# Altium schematic symbol library Orient.SchLib: 98 symbols (part 5 of 5)
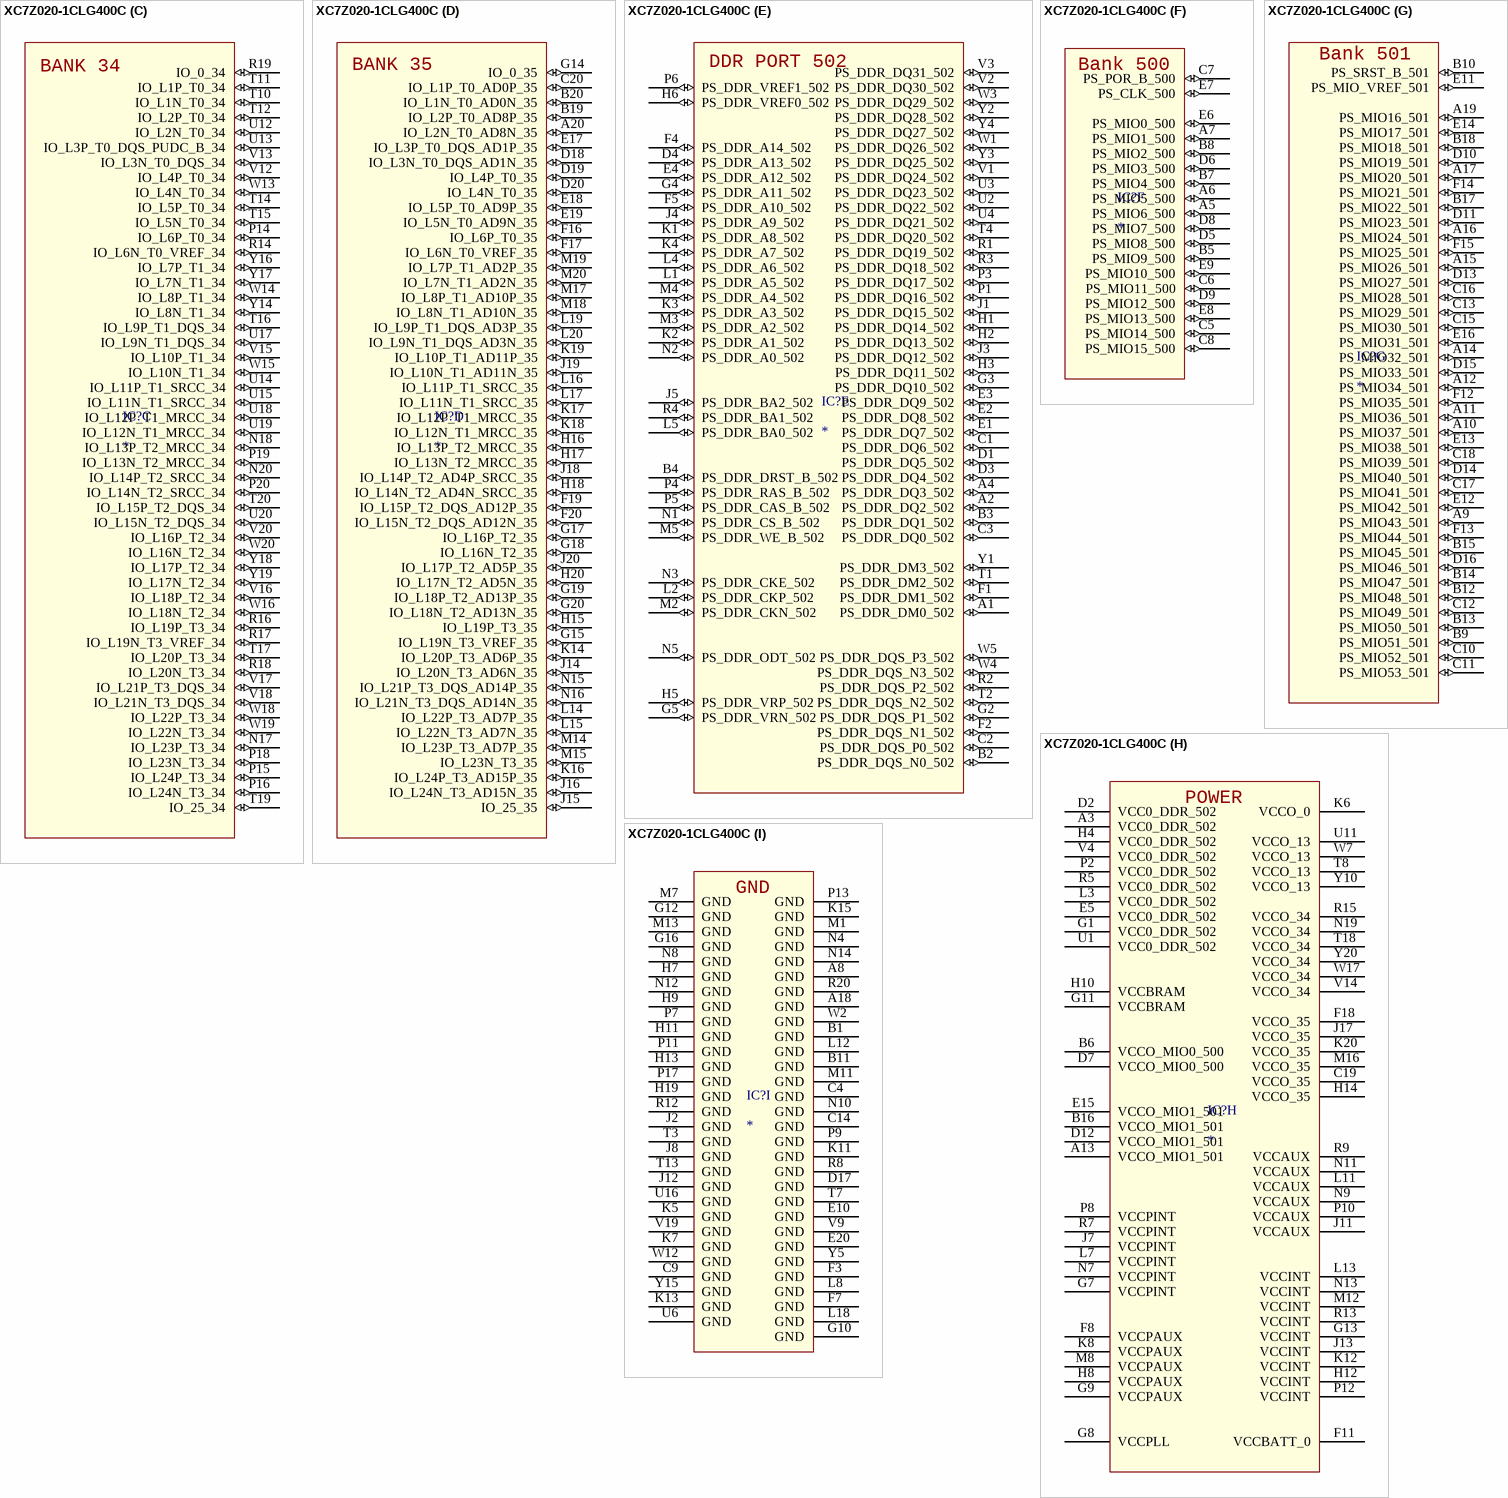
[diagram p7: symbol XC7Z020-1CLG400C]

## XC7Z020-1CLG400C
designator IC?
Zynq-7000 SoC.; ComponentLink1Description: Digi-Key; ComponentLink1URL: https://www.digikey.com/product-detail/en/xilinx-inc/XC7Z020-1CLG400C/122-1851-ND/3925758?utm_adgroup=Integrated Circuits&slid=&gclid=Cj0KCQjwn_LrBRD4ARIsAFEQFKtYXIOPieaS_xsLL2AvFALkVw3M5siD0KQOWM0owpA_yiQuHKATBqcaAuQ6EALw_wcB
footprint BGA400 (BGA, 400-Leads, Body 17.00x17.00mmx1.47mm, Pitch 0.80mm)
part A pins: F6 TDO_0 (out) "JTAG data output.", F9 TCK_0 (in) "JTAG clock.", F10 RSVDGND (io) "Reserved pins--do not connect.", G6 TDI_0 (in) "JTAG data input.", J6 TMS_0 (in) "JTAG mode select.", J9 VCCADC_0 "XADC analog positive supply voltage.", J10 GNDADC_0 "XADC analog ground reference.", K9 VP_0 "XADC dedicated differential analog input (positive side).", K10 VREFN_0 "1.25V reference GND reference.", L6 PROGRAM_B_0 (in) "Active Low, asynchronous reset to configuration logic.", L9 VREFP_0 "1.25V reference input.", L10 VN_0 "XADC dedicated differential analog input (negative side).", M6 CFGBVS_0 (in) "Selects the preconfiguration I/O standard type for the dedicated configuration bank 0. If the Vcco for bank 0 is 2.5V or 3.3V, then this pin must be connected to Vcco_0. If the Vcco for bank 0 is less than or equal to 1.8V, then this pin should be connected to GND.", M9 DXP_0 "Temperature-sensing diode anode pin. When not used, tie to GND.", M10 DXN_0 "Temperature-sensing diode cathode pin. When not used, tie to GND.", N6 RSVDVCC3 (io) "Reserved pins--must be tied to Vcco_0.", R6 RSVDVCC2 (io) "Reserved pins--must be tied to Vcco_0.", R10 INIT_B_0 (io) "Active Low, indicates initialisation of configuration memory.", R11 DONE_0 (io) "Active High, DONE indicates successful completion of configuration.", T6 RSVDVCC1 (io) "Reserved pins--must be tied to Vcco_0."
part B pins: T5 IO_L19P_T3_13 (io) "Dedicated general purpose user I/O pins. There are also multi-function pins. If not used for their special function, these pins can be user I/O.", T9 IO_L12P_T1_MRCC_13 (io) "Dedicated general purpose user I/O pins. There are also multi-function pins. If not used for their special function, these pins can be user I/O.", U5 IO_L19N_T3_VREF_13 (io) "Dedicated general purpose user I/O pins. There are also multi-function pins. If not used for their special function, these pins can be user I/O.", U7 IO_L11P_T1_SRCC_13 (io) "Dedicated general purpose user I/O pins. There are also multi-function pins. If not used for their special function, these pins can be user I/O.", U8 IO_L17N_T2_13 (io) "Dedicated general purpose user I/O pins. There are also multi-function pins. If not used for their special function, these pins can be user I/O.", U9 IO_L17P_T2_13 (io) "Dedicated general purpose user I/O pins. There are also multi-function pins. If not used for their special function, these pins can be user I/O.", U10 IO_L12N_T1_MRCC_13 (io) "Dedicated general purpose user I/O pins. There are also multi-function pins. If not used for their special function, these pins can be user I/O.", V5 IO_L6N_T0_VREF_13 (io) "Dedicated general purpose user I/O pins. There are also multi-function pins. If not used for their special function, these pins can be user I/O.", V6 IO_L22P_T3_13 (io) "Dedicated general purpose user I/O pins. There are also multi-function pins. If not used for their special function, these pins can be user I/O.", V7 IO_L11N_T1_SRCC_13 (io) "Dedicated general purpose user I/O pins. There are also multi-function pins. If not used for their special function, these pins can be user I/O.", V8 IO_L15P_T2_DQS_13 (io) "Dedicated general purpose user I/O pins. There are also multi-function pins. If not used for their special function, these pins can be user I/O.", V10 IO_L21N_T3_DQS_13 (io) "Dedicated general purpose user I/O pins. There are also multi-function pins. If not used for their special function, these pins can be user I/O.", V11 IO_L21P_T3_DQS_13 (io) "Dedicated general purpose user I/O pins. There are also multi-function pins. If not used for their special function, these pins can be user I/O.", W6 IO_L22N_T3_13 (io) "Dedicated general purpose user I/O pins. There are also multi-function pins. If not used for their special function, these pins can be user I/O.", W8 IO_L15N_T2_DQS_13 (io) "Dedicated general purpose user I/O pins. There are also multi-function pins. If not used for their special function, these pins can be user I/O.", W9 IO_L16N_T2_13 (io) "Dedicated general purpose user I/O pins. There are also multi-function pins. If not used for their special function, these pins can be user I/O.", W10 IO_L16P_T2_13 (io) "Dedicated general purpose user I/O pins. There are also multi-function pins. If not used for their special function, these pins can be user I/O.", W11 IO_L18P_T2_13 (io) "Dedicated general purpose user I/O pins. There are also multi-function pins. If not used for their special function, these pins can be user I/O.", Y6 IO_L13N_T2_MRCC_13 (io) "Dedicated general purpose user I/O pins. There are also multi-function pins. If not used for their special function, these pins can be user I/O.", Y7 IO_L13P_T2_MRCC_13 (io) "Dedicated general purpose user I/O pins. There are also multi-function pins. If not used for their special function, these pins can be user I/O.", Y8 IO_L14N_T2_SRCC_13 (io) "Dedicated general purpose user I/O pins. There are also multi-function pins. If not used for their special function, these pins can be user I/O.", Y9 IO_L14P_T2_SRCC_13 (io) "Dedicated general purpose user I/O pins. There are also multi-function pins. If not used for their special function, these pins can be user I/O.", Y11 IO_L18N_T2_13 (io) "Dedicated general purpose user I/O pins. There are also multi-function pins. If not used for their special function, these pins can be user I/O.", Y12 IO_L20P_T3_13 (io) "Dedicated general purpose user I/O pins. There are also multi-function pins. If not used for their special function, these pins can be user I/O.", Y13 IO_L20N_T3_13 (io) "Dedicated general purpose user I/O pins. There are also multi-function pins. If not used for their special function, these pins can be user I/O."
part C pins: N17 IO_L23P_T3_34 (io) "Dedicated general purpose user I/O pins. There are also multi-function pins. If not used for their special function, these pins can be user I/O.", N18 IO_L13P_T2_MRCC_34 (io) "Dedicated general purpose user I/O pins. There are also multi-function pins. If not used for their special function, these pins can be user I/O.", N20 IO_L14P_T2_SRCC_34 (io) "Dedicated general purpose user I/O pins. There are also multi-function pins. If not used for their special function, these pins can be user I/O.", P14 IO_L6P_T0_34 (io) "Dedicated general purpose user I/O pins. There are also multi-function pins. If not used for their special function, these pins can be user I/O.", P15 IO_L24P_T3_34 (io) "Dedicated general purpose user I/O pins. There are also multi-function pins. If not used for their special function, these pins can be user I/O.", P16 IO_L24N_T3_34 (io) "Dedicated general purpose user I/O pins. There are also multi-function pins. If not used for their special function, these pins can be user I/O.", P18 IO_L23N_T3_34 (io) "Dedicated general purpose user I/O pins. There are also multi-function pins. If not used for their special function, these pins can be user I/O.", P19 IO_L13N_T2_MRCC_34 (io) "Dedicated general purpose user I/O pins. There are also multi-function pins. If not used for their special function, these pins can be user I/O.", P20 IO_L14N_T2_SRCC_34 (io) "Dedicated general purpose user I/O pins. There are also multi-function pins. If not used for their special function, these pins can be user I/O.", R14 IO_L6N_T0_VREF_34 (io) "Dedicated general purpose user I/O pins. There are also multi-function pins. If not used for their special function, these pins can be user I/O.", R16 IO_L19P_T3_34 (io) "Dedicated general purpose user I/O pins. There are also multi-function pins. If not used for their special function, these pins can be user I/O.", R17 IO_L19N_T3_VREF_34 (io) "Dedicated general purpose user I/O pins. There are also multi-function pins. If not used for their special function, these pins can be user I/O.", R18 IO_L20N_T3_34 (io) "Dedicated general purpose user I/O pins. There are also multi-function pins. If not used for their special function, these pins can be user I/O.", R19 IO_0_34 (io) "Dedicated general purpose user I/O pins. There are also multi-function pins. If not used for their special function, these pins can be user I/O.", T10 IO_L1N_T0_34 (io) "Dedicated general purpose user I/O pins. There are also multi-function pins. If not used for their special function, these pins can be user I/O.", T11 IO_L1P_T0_34 (io) "Dedicated general purpose user I/O pins. There are also multi-function pins. If not used for their special function, these pins can be user I/O.", T12 IO_L2P_T0_34 (io) "Dedicated general purpose user I/O pins. There are also multi-function pins. If not used for their special function, these pins can be user I/O.", T14 IO_L5P_T0_34 (io) "Dedicated general purpose user I/O pins. There are also multi-function pins. If not used for their special function, these pins can be user I/O.", T15 IO_L5N_T0_34 (io) "Dedicated general purpose user I/O pins. There are also multi-function pins. If not used for their special function, these pins can be user I/O.", T16 IO_L9P_T1_DQS_34 (io) "Dedicated general purpose user I/O pins. There are also multi-function pins. If not used for their special function, these pins can be user I/O.", T17 IO_L20P_T3_34 (io) "Dedicated general purpose user I/O pins. There are also multi-function pins. If not used for their special function, these pins can be user I/O.", T19 IO_25_34 (io) "Dedicated general purpose user I/O pins. There are also multi-function pins. If not used for their special function, these pins can be user I/O.", T20 IO_L15P_T2_DQS_34 (io) "Dedicated general purpose user I/O pins. There are also multi-function pins. If not used for their special function, these pins can be user I/O.", U12 IO_L2N_T0_34 (io) "Dedicated general purpose user I/O pins. There are also multi-function pins. If not used for their special function, these pins can be user I/O.", U13 IO_L3P_T0_DQS_PUDC_B_34 (io) "Dedicated general purpose user I/O pins. There are also multi-function pins. If not used for their special function, these pins can be user I/O.", U14 IO_L11P_T1_SRCC_34 (io) "Dedicated general purpose user I/O pins. There are also multi-function pins. If not used for their special function, these pins can be user I/O.", U15 IO_L11N_T1_SRCC_34 (io) "Dedicated general purpose user I/O pins. There are also multi-function pins. If not used for their special function, these pins can be user I/O.", U17 IO_L9N_T1_DQS_34 (io) "Dedicated general purpose user I/O pins. There are also multi-function pins. If not used for their special function, these pins can be user I/O.", U18 IO_L12P_T1_MRCC_34 (io) "Dedicated general purpose user I/O pins. There are also multi-function pins. If not used for their special function, these pins can be user I/O.", U19 IO_L12N_T1_MRCC_34 (io) "Dedicated general purpose user I/O pins. There are also multi-function pins. If not used for their special function, these pins can be user I/O.", U20 IO_L15N_T2_DQS_34 (io) "Dedicated general purpose user I/O pins. There are also multi-function pins. If not used for their special function, these pins can be user I/O.", V12 IO_L4P_T0_34 (io) "Dedicated general purpose user I/O pins. There are also multi-function pins. If not used for their special function, these pins can be user I/O.", V13 IO_L3N_T0_DQS_34 (io) "Dedicated general purpose user I/O pins. There are also multi-function pins. If not used for their special function, these pins can be user I/O.", V15 IO_L10P_T1_34 (io) "Dedicated general purpose user I/O pins. There are also multi-function pins. If not used for their special function, these pins can be user I/O.", V16 IO_L18P_T2_34 (io) "Dedicated general purpose user I/O pins. There are also multi-function pins. If not used for their special function, these pins can be user I/O.", V17 IO_L21P_T3_DQS_34 (io) "Dedicated general purpose user I/O pins. There are also multi-function pins. If not used for their special function, these pins can be user I/O.", V18 IO_L21N_T3_DQS_34 (io) "Dedicated general purpose user I/O pins. There are also multi-function pins. If not used for their special function, these pins can be user I/O.", V20 IO_L16P_T2_34 (io) "Dedicated general purpose user I/O pins. There are also multi-function pins. If not used for their special function, these pins can be user I/O.", W13 IO_L4N_T0_34 (io) "Dedicated general purpose user I/O pins. There are also multi-function pins. If not used for their special function, these pins can be user I/O.", W14 IO_L8P_T1_34 (io) "Dedicated general purpose user I/O pins. There are also multi-function pins. If not used for their special function, these pins can be user I/O.", W15 IO_L10N_T1_34 (io) "Dedicated general purpose user I/O pins. There are also multi-function pins. If not used for their special function, these pins can be user I/O.", W16 IO_L18N_T2_34 (io) "Dedicated general purpose user I/O pins. There are also multi-function pins. If not used for their special function, these pins can be user I/O.", W18 IO_L22P_T3_34 (io) "Dedicated general purpose user I/O pins. There are also multi-function pins. If not used for their special function, these pins can be user I/O.", W19 IO_L22N_T3_34 (io) "Dedicated general purpose user I/O pins. There are also multi-function pins. If not used for their special function, these pins can be user I/O.", W20 IO_L16N_T2_34 (io) "Dedicated general purpose user I/O pins. There are also multi-function pins. If not used for their special function, these pins can be user I/O.", Y14 IO_L8N_T1_34 (io) "Dedicated general purpose user I/O pins. There are also multi-function pins. If not used for their special function, these pins can be user I/O.", Y16 IO_L7P_T1_34 (io) "Dedicated general purpose user I/O pins. There are also multi-function pins. If not used for their special function, these pins can be user I/O.", Y17 IO_L7N_T1_34 (io) "Dedicated general purpose user I/O pins. There are also multi-function pins. If not used for their special function, these pins can be user I/O.", Y18 IO_L17P_T2_34 (io) "Dedicated general purpose user I/O pins. There are also multi-function pins. If not used for their special function, these pins can be user I/O.", Y19 IO_L17N_T2_34 (io) "Dedicated general purpose user I/O pins. There are also multi-function pins. If not used for their special function, these pins can be user I/O."
part D pins: A20 IO_L2N_T0_AD8N_35 (io) "Dedicated general purpose user I/O pins. There are also multi-function pins. If not used for their special function, these pins can be user I/O.", B19 IO_L2P_T0_AD8P_35 (io) "Dedicated general purpose user I/O pins. There are also multi-function pins. If not used for their special function, these pins can be user I/O.", B20 IO_L1N_T0_AD0N_35 (io) "Dedicated general purpose user I/O pins. There are also multi-function pins. If not used for their special function, these pins can be user I/O.", C20 IO_L1P_T0_AD0P_35 (io) "Dedicated general purpose user I/O pins. There are also multi-function pins. If not used for their special function, these pins can be user I/O.", D18 IO_L3N_T0_DQS_AD1N_35 (io) "Dedicated general purpose user I/O pins. There are also multi-function pins. If not used for their special function, these pins can be user I/O.", D19 IO_L4P_T0_35 (io) "Dedicated general purpose user I/O pins. There are also multi-function pins. If not used for their special function, these pins can be user I/O.", D20 IO_L4N_T0_35 (io) "Dedicated general purpose user I/O pins. There are also multi-function pins. If not used for their special function, these pins can be user I/O.", E17 IO_L3P_T0_DQS_AD1P_35 (io) "Dedicated general purpose user I/O pins. There are also multi-function pins. If not used for their special function, these pins can be user I/O.", E18 IO_L5P_T0_AD9P_35 (io) "Dedicated general purpose user I/O pins. There are also multi-function pins. If not used for their special function, these pins can be user I/O.", E19 IO_L5N_T0_AD9N_35 (io) "Dedicated general purpose user I/O pins. There are also multi-function pins. If not used for their special function, these pins can be user I/O.", F16 IO_L6P_T0_35 (io) "Dedicated general purpose user I/O pins. There are also multi-function pins. If not used for their special function, these pins can be user I/O.", F17 IO_L6N_T0_VREF_35 (io) "Dedicated general purpose user I/O pins. There are also multi-function pins. If not used for their special function, these pins can be user I/O.", F19 IO_L15P_T2_DQS_AD12P_35 (io) "Dedicated general purpose user I/O pins. There are also multi-function pins. If not used for their special function, these pins can be user I/O.", F20 IO_L15N_T2_DQS_AD12N_35 (io) "Dedicated general purpose user I/O pins. There are also multi-function pins. If not used for their special function, these pins can be user I/O.", G14 IO_0_35 (io) "Dedicated general purpose user I/O pins. There are also multi-function pins. If not used for their special function, these pins can be user I/O.", G15 IO_L19N_T3_VREF_35 (io) "Dedicated general purpose user I/O pins. There are also multi-function pins. If not used for their special function, these pins can be user I/O.", G17 IO_L16P_T2_35 (io) "Dedicated general purpose user I/O pins. There are also multi-function pins. If not used for their special function, these pins can be user I/O.", G18 IO_L16N_T2_35 (io) "Dedicated general purpose user I/O pins. There are also multi-function pins. If not used for their special function, these pins can be user I/O.", G19 IO_L18P_T2_AD13P_35 (io) "Dedicated general purpose user I/O pins. There are also multi-function pins. If not used for their special function, these pins can be user I/O.", G20 IO_L18N_T2_AD13N_35 (io) "Dedicated general purpose user I/O pins. There are also multi-function pins. If not used for their special function, these pins can be user I/O.", H15 IO_L19P_T3_35 (io) "Dedicated general purpose user I/O pins. There are also multi-function pins. If not used for their special function, these pins can be user I/O.", H16 IO_L13P_T2_MRCC_35 (io) "Dedicated general purpose user I/O pins. There are also multi-function pins. If not used for their special function, these pins can be user I/O.", H17 IO_L13N_T2_MRCC_35 (io) "Dedicated general purpose user I/O pins. There are also multi-function pins. If not used for their special function, these pins can be user I/O.", H18 IO_L14N_T2_AD4N_SRCC_35 (io) "Dedicated general purpose user I/O pins. There are also multi-function pins. If not used for their special function, these pins can be user I/O.", H20 IO_L17N_T2_AD5N_35 (io) "Dedicated general purpose user I/O pins. There are also multi-function pins. If not used for their special function, these pins can be user I/O.", J14 IO_L20N_T3_AD6N_35 (io) "Dedicated general purpose user I/O pins. There are also multi-function pins. If not used for their special function, these pins can be user I/O.", J15 IO_25_35 (io) "Dedicated general purpose user I/O pins. There are also multi-function pins. If not used for their special function, these pins can be user I/O.", J16 IO_L24N_T3_AD15N_35 (io) "Dedicated general purpose user I/O pins. There are also multi-function pins. If not used for their special function, these pins can be user I/O.", J18 IO_L14P_T2_AD4P_SRCC_35 (io) "Dedicated general purpose user I/O pins. There are also multi-function pins. If not used for their special function, these pins can be user I/O.", J19 IO_L10N_T1_AD11N_35 (io) "Dedicated general purpose user I/O pins. There are also multi-function pins. If not used for their special function, these pins can be user I/O.", J20 IO_L17P_T2_AD5P_35 (io) "Dedicated general purpose user I/O pins. There are also multi-function pins. If not used for their special function, these pins can be user I/O.", K14 IO_L20P_T3_AD6P_35 (io) "Dedicated general purpose user I/O pins. There are also multi-function pins. If not used for their special function, these pins can be user I/O.", K16 IO_L24P_T3_AD15P_35 (io) "Dedicated general purpose user I/O pins. There are also multi-function pins. If not used for their special function, these pins can be user I/O.", K17 IO_L12P_T1_MRCC_35 (io) "Dedicated general purpose user I/O pins. There are also multi-function pins. If not used for their special function, these pins can be user I/O.", K18 IO_L12N_T1_MRCC_35 (io) "Dedicated general purpose user I/O pins. There are also multi-function pins. If not used for their special function, these pins can be user I/O.", K19 IO_L10P_T1_AD11P_35 (io) "Dedicated general purpose user I/O pins. There are also multi-function pins. If not used for their special function, these pins can be user I/O.", L14 IO_L22P_T3_AD7P_35 (io) "Dedicated general purpose user I/O pins. There are also multi-function pins. If not used for their special function, these pins can be user I/O.", L15 IO_L22N_T3_AD7N_35 (io) "Dedicated general purpose user I/O pins. There are also multi-function pins. If not used for their special function, these pins can be user I/O.", L16 IO_L11P_T1_SRCC_35 (io) "Dedicated general purpose user I/O pins. There are also multi-function pins. If not used for their special function, these pins can be user I/O.", L17 IO_L11N_T1_SRCC_35 (io) "Dedicated general purpose user I/O pins. There are also multi-function pins. If not used for their special function, these pins can be user I/O.", L19 IO_L9P_T1_DQS_AD3P_35 (io) "Dedicated general purpose user I/O pins. There are also multi-function pins. If not used for their special function, these pins can be user I/O.", L20 IO_L9N_T1_DQS_AD3N_35 (io) "Dedicated general purpose user I/O pins. There are also multi-function pins. If not used for their special function, these pins can be user I/O.", M14 IO_L23P_T3_AD7P_35 (io) "Dedicated general purpose user I/O pins. There are also multi-function pins. If not used for their special function, these pins can be user I/O.", M15 IO_L23N_T3_35 (io) "Dedicated general purpose user I/O pins. There are also multi-function pins. If not used for their special function, these pins can be user I/O.", M17 IO_L8P_T1_AD10P_35 (io) "Dedicated general purpose user I/O pins. There are also multi-function pins. If not used for their special function, these pins can be user I/O.", M18 IO_L8N_T1_AD10N_35 (io) "Dedicated general purpose user I/O pins. There are also multi-function pins. If not used for their special function, these pins can be user I/O.", M19 IO_L7P_T1_AD2P_35 (io) "Dedicated general purpose user I/O pins. There are also multi-function pins. If not used for their special function, these pins can be user I/O.", M20 IO_L7N_T1_AD2N_35 (io) "Dedicated general purpose user I/O pins. There are also multi-function pins. If not used for their special function, these pins can be user I/O.", N15 IO_L21P_T3_DQS_AD14P_35 (io) "Dedicated general purpose user I/O pins. There are also multi-function pins. If not used for their special function, these pins can be user I/O.", N16 IO_L21N_T3_DQS_AD14N_35 (io) "Dedicated general purpose user I/O pins. There are also multi-function pins. If not used for their special function, these pins can be user I/O."
part E pins: A1 PS_DDR_DM0_502 (io) "DDR data mask.", A2 PS_DDR_DQ2_502 (io) "DDR data.", A4 PS_DDR_DQ3_502 (io) "DDR data.", B2 PS_DDR_DQS_N0_502 (io) "DDR differential data strobe negative.", B3 PS_DDR_DQ1_502 (io) "DDR data.", B4 PS_DDR_DRST_B_502 (io) "DDR reset signal for DDR3 devices.", C1 PS_DDR_DQ6_502 (io) "DDR data.", C2 PS_DDR_DQS_P0_502 (io) "DDR differential data strobe positive.", C3 PS_DDR_DQ0_502 (io) "DDR data.", D1 PS_DDR_DQ5_502 (io) "DDR data.", D3 PS_DDR_DQ4_502 (io) "DDR data.", D4 PS_DDR_A13_502 (io) "DDR row and column address.", E1 PS_DDR_DQ7_502 (io) "DDR data.", E2 PS_DDR_DQ8_502 (io) "DDR data.", E3 PS_DDR_DQ9_502 (io) "DDR data.", E4 PS_DDR_A12_502 (io) "DDR row and column address.", F1 PS_DDR_DM1_502 (io) "DDR data mask.", F2 PS_DDR_DQS_N1_502 (io) "DDR differential data strobe negative.", F4 PS_DDR_A14_502 (io) "DDR row and column address.", F5 PS_DDR_A10_502 (io) "DDR row and column address.", G2 PS_DDR_DQS_P1_502 (io) "DDR differential data strobe positive.", G3 PS_DDR_DQ10_502 (io) "DDR data.", G4 PS_DDR_A11_502 (io) "DDR row and column address.", G5 PS_DDR_VRN_502 (io) "DDR DCI voltage reference negative.", H1 PS_DDR_DQ14_502 (io) "DDR data.", H2 PS_DDR_DQ13_502 (io) "DDR data.", H3 PS_DDR_DQ11_502 (io) "DDR data.", H5 PS_DDR_VRP_502 (io) "DDR DCI voltage reference positive.", H6 PS_DDR_VREF0_502 (io) "Voltage reference for the DDR interface.", J1 PS_DDR_DQ15_502 (io) "DDR data.", J3 PS_DDR_DQ12_502 (io) "DDR data.", J4 PS_DDR_A9_502 (io) "DDR row and column address.", J5 PS_DDR_BA2_502 (io) "DDR bank address.", K1 PS_DDR_A8_502 (io) "DDR row and column address.", K2 PS_DDR_A1_502 (io) "DDR row and column address.", K3 PS_DDR_A3_502 (io) "DDR row and column address.", K4 PS_DDR_A7_502 (io) "DDR row and column address.", L1 PS_DDR_A5_502 (io) "DDR row and column address.", L2 PS_DDR_CKP_502 (io) "DDR differential clock positive.", L4 PS_DDR_A6_502 (io) "DDR row and column address.", L5 PS_DDR_BA0_502 (io) "DDR bank address.", M2 PS_DDR_CKN_502 (io) "DDR differential clock negative.", M3 PS_DDR_A2_502 (io) "DDR row and column address.", M4 PS_DDR_A4_502 (io) "DDR row and column address.", M5 PS_DDR_WE_B_502 (io) "DDR write enable signal.", N1 PS_DDR_CS_B_502 (io) "DDR chip select.", N2 PS_DDR_A0_502 (io) "DDR row and column address.", N3 PS_DDR_CKE_502 (io) "DDR clock enable.", N5 PS_DDR_ODT_502 (io) "DDR termination control.", P1 PS_DDR_DQ16_502 (io) "DDR data.", P3 PS_DDR_DQ17_502 (io) "DDR data.", P4 PS_DDR_RAS_B_502 (io) "DDR RAS control signal.", P5 PS_DDR_CAS_B_502 (io) "DDR CAS control signal.", P6 PS_DDR_VREF1_502 (io) "Voltage reference for the DDR interface.", R1 PS_DDR_DQ19_502 (io) "DDR data.", R2 PS_DDR_DQS_P2_502 (io) "DDR differential data strobe positive.", R3 PS_DDR_DQ18_502 (io) "DDR data.", R4 PS_DDR_BA1_502 (io) "DDR bank address.", T1 PS_DDR_DM2_502 (io) "DDR data mask.", T2 PS_DDR_DQS_N2_502 (io) "DDR differential data strobe negative.", T4 PS_DDR_DQ20_502 (io) "DDR data.", U2 PS_DDR_DQ22_502 (io) "DDR data.", U3 PS_DDR_DQ23_502 (io) "DDR data.", U4 PS_DDR_DQ21_502 (io) "DDR data.", V1 PS_DDR_DQ24_502 (io) "DDR data.", V2 PS_DDR_DQ30_502 (io) "DDR data.", V3 PS_DDR_DQ31_502 (io) "DDR data.", W1 PS_DDR_DQ26_502 (io) "DDR data.", W3 PS_DDR_DQ29_502 (io) "DDR data.", W4 PS_DDR_DQS_N3_502 (io) "DDR differential data strobe positive.", W5 PS_DDR_DQS_P3_502 (io) "DDR differential data strobe positive.", Y1 PS_DDR_DM3_502 (io) "DDR data mask.", Y2 PS_DDR_DQ28_502 (io) "DDR data.", Y3 PS_DDR_DQ25_502 (io) "DDR data.", Y4 PS_DDR_DQ27_502 (io) "DDR data."
part F pins: A5 PS_MIO6_500 (io) "Multiuse I/O. Can be configured to support SPI, NAND, USB, Ethernet, SDIO, UART, and GPIO interfaces.", A6 PS_MIO5_500 (io) "Multiuse I/O. Can be configured to support SPI, NAND, USB, Ethernet, SDIO, UART, and GPIO interfaces.", A7 PS_MIO1_500 (io) "Multiuse I/O. Can be configured to support SPI, NAND, USB, Ethernet, SDIO, UART, and GPIO interfaces.", B5 PS_MIO9_500 (io) "Multiuse I/O. Can be configured to support SPI, NAND, USB, Ethernet, SDIO, UART, and GPIO interfaces.", B7 PS_MIO4_500 (io) "Multiuse I/O. Can be configured to support SPI, NAND, USB, Ethernet, SDIO, UART, and GPIO interfaces.", B8 PS_MIO2_500 (io) "Multiuse I/O. Can be configured to support SPI, NAND, USB, Ethernet, SDIO, UART, and GPIO interfaces.", C5 PS_MIO14_500 (io) "Multiuse I/O. Can be configured to support SPI, NAND, USB, Ethernet, SDIO, UART, and GPIO interfaces.", C6 PS_MIO11_500 (io) "Multiuse I/O. Can be configured to support SPI, NAND, USB, Ethernet, SDIO, UART, and GPIO interfaces.", C7 PS_POR_B_500 (io) "Power on reset.", C8 PS_MIO15_500 (io) "Multiuse I/O. Can be configured to support SPI, NAND, USB, Ethernet, SDIO, UART, and GPIO interfaces.", D5 PS_MIO8_500 (io) "Multiuse I/O. Can be configured to support SPI, NAND, USB, Ethernet, SDIO, UART, and GPIO interfaces.", D6 PS_MIO3_500 (io) "Multiuse I/O. Can be configured to support SPI, NAND, USB, Ethernet, SDIO, UART, and GPIO interfaces.", D8 PS_MIO7_500 (io) "Multiuse I/O. Can be configured to support SPI, NAND, USB, Ethernet, SDIO, UART, and GPIO interfaces.", D9 PS_MIO12_500 (io) "Multiuse I/O. Can be configured to support SPI, NAND, USB, Ethernet, SDIO, UART, and GPIO interfaces.", E6 PS_MIO0_500 (io) "Multiuse I/O. Can be configured to support SPI, NAND, USB, Ethernet, SDIO, UART, and GPIO interfaces.", E7 PS_CLK_500 (io) "System reference clock. Must be between 30 MHz and 60 MHz.", E8 PS_MIO13_500 (io) "Multiuse I/O. Can be configured to support SPI, NAND, USB, Ethernet, SDIO, UART, and GPIO interfaces.", E9 PS_MIO10_500 (io) "Multiuse I/O. Can be configured to support SPI, NAND, USB, Ethernet, SDIO, UART, and GPIO interfaces."
part G pins: A9 PS_MIO43_501 (io) "Multiuse I/O. Can be configured to support SPI, NAND, USB, Ethernet, SDIO, UART, and GPIO interfaces.", A10 PS_MIO37_501 (io) "Multiuse I/O. Can be configured to support SPI, NAND, USB, Ethernet, SDIO, UART, and GPIO interfaces.", A11 PS_MIO36_501 (io) "Multiuse I/O. Can be configured to support SPI, NAND, USB, Ethernet, SDIO, UART, and GPIO interfaces.", A12 PS_MIO34_501 (io) "Multiuse I/O. Can be configured to support SPI, NAND, USB, Ethernet, SDIO, UART, and GPIO interfaces.", A14 PS_MIO32_501 (io) "Multiuse I/O. Can be configured to support SPI, NAND, USB, Ethernet, SDIO, UART, and GPIO interfaces.", A15 PS_MIO26_501 (io) "Multiuse I/O. Can be configured to support SPI, NAND, USB, Ethernet, SDIO, UART, and GPIO interfaces.", A16 PS_MIO24_501 (io) "Multiuse I/O. Can be configured to support SPI, NAND, USB, Ethernet, SDIO, UART, and GPIO interfaces.", A17 PS_MIO20_501 (io) "Multiuse I/O. Can be configured to support SPI, NAND, USB, Ethernet, SDIO, UART, and GPIO interfaces.", A19 PS_MIO16_501 (io) "Multiuse I/O. Can be configured to support SPI, NAND, USB, Ethernet, SDIO, UART, and GPIO interfaces.", B9 PS_MIO51_501 (io) "Multiuse I/O. Can be configured to support SPI, NAND, USB, Ethernet, SDIO, UART, and GPIO interfaces.", B10 PS_SRST_B_501 (io) "System reset. For use with debuggers.", B12 PS_MIO48_501 (io) "Multiuse I/O. Can be configured to support SPI, NAND, USB, Ethernet, SDIO, UART, and GPIO interfaces.", B13 PS_MIO50_501 (io) "Multiuse I/O. Can be configured to support SPI, NAND, USB, Ethernet, SDIO, UART, and GPIO interfaces.", B14 PS_MIO47_501 (io) "Multiuse I/O. Can be configured to support SPI, NAND, USB, Ethernet, SDIO, UART, and GPIO interfaces.", B15 PS_MIO45_501 (io) "Multiuse I/O. Can be configured to support SPI, NAND, USB, Ethernet, SDIO, UART, and GPIO interfaces.", B17 PS_MIO22_501 (io) "Multiuse I/O. Can be configured to support SPI, NAND, USB, Ethernet, SDIO, UART, and GPIO interfaces.", B18 PS_MIO18_501 (io) "Multiuse I/O. Can be configured to support SPI, NAND, USB, Ethernet, SDIO, UART, and GPIO interfaces.", C10 PS_MIO52_501 (io) "Multiuse I/O. Can be configured to support SPI, NAND, USB, Ethernet, SDIO, UART, and GPIO interfaces.", C11 PS_MIO53_501 (io) "Multiuse I/O. Can be configured to support SPI, NAND, USB, Ethernet, SDIO, UART, and GPIO interfaces.", C12 PS_MIO49_501 (io) "Multiuse I/O. Can be configured to support SPI, NAND, USB, Ethernet, SDIO, UART, and GPIO interfaces.", C13 PS_MIO29_501 (io) "Multiuse I/O. Can be configured to support SPI, NAND, USB, Ethernet, SDIO, UART, and GPIO interfaces.", C15 PS_MIO30_501 (io) "Multiuse I/O. Can be configured to support SPI, NAND, USB, Ethernet, SDIO, UART, and GPIO interfaces.", C16 PS_MIO28_501 (io) "Multiuse I/O. Can be configured to support SPI, NAND, USB, Ethernet, SDIO, UART, and GPIO interfaces.", C17 PS_MIO41_501 (io) "Multiuse I/O. Can be configured to support SPI, NAND, USB, Ethernet, SDIO, UART, and GPIO interfaces.", C18 PS_MIO39_501 (io) "Multiuse I/O. Can be configured to support SPI, NAND, USB, Ethernet, SDIO, UART, and GPIO interfaces.", D10 PS_MIO19_501 (io) "Multiuse I/O. Can be configured to support SPI, NAND, USB, Ethernet, SDIO, UART, and GPIO interfaces.", D11 PS_MIO23_501 (io) "Multiuse I/O. Can be configured to support SPI, NAND, USB, Ethernet, SDIO, UART, and GPIO interfaces.", D13 PS_MIO27_501 (io) "Multiuse I/O. Can be configured to support SPI, NAND, USB, Ethernet, SDIO, UART, and GPIO interfaces.", D14 PS_MIO40_501 (io) "Multiuse I/O. Can be configured to support SPI, NAND, USB, Ethernet, SDIO, UART, and GPIO interfaces.", D15 PS_MIO33_501 (io) "Multiuse I/O. Can be configured to support SPI, NAND, USB, Ethernet, SDIO, UART, and GPIO interfaces.", D16 PS_MIO46_501 (io) "Multiuse I/O. Can be configured to support SPI, NAND, USB, Ethernet, SDIO, UART, and GPIO interfaces.", E11 PS_MIO_VREF_501 (io) "Reference voltage for the RGMII input receivers.", E12 PS_MIO42_501 (io) "Multiuse I/O. Can be configured to support SPI, NAND, USB, Ethernet, SDIO, UART, and GPIO interfaces.", E13 PS_MIO38_501 (io) "Multiuse I/O. Can be configured to support SPI, NAND, USB, Ethernet, SDIO, UART, and GPIO interfaces.", E14 PS_MIO17_501 (io) "Multiuse I/O. Can be configured to support SPI, NAND, USB, Ethernet, SDIO, UART, and GPIO interfaces.", E16 PS_MIO31_501 (io) "Multiuse I/O. Can be configured to support SPI, NAND, USB, Ethernet, SDIO, UART, and GPIO interfaces.", F12 PS_MIO35_501 (io) "Multiuse I/O. Can be configured to support SPI, NAND, USB, Ethernet, SDIO, UART, and GPIO interfaces.", F13 PS_MIO44_501 (io) "Multiuse I/O. Can be configured to support SPI, NAND, USB, Ethernet, SDIO, UART, and GPIO interfaces.", F14 PS_MIO21_501 (io) "Multiuse I/O. Can be configured to support SPI, NAND, USB, Ethernet, SDIO, UART, and GPIO interfaces.", F15 PS_MIO25_501 (io) "Multiuse I/O. Can be configured to support SPI, NAND, USB, Ethernet, SDIO, UART, and GPIO interfaces."
part H pins: A3 VCC0_DDR_502 "1.2V-1.8V DDR I/O supply.", A13 VCCO_MIO1_501 "1.8V-3.3V PS I/O supply for MIO bank 501.", B6 VCCO_MIO0_500 "1.8V-3.3V PS I/O supply for MIO bank 500.", B16 VCCO_MIO1_501 "1.8V-3.3V PS I/O supply for MIO bank 501.", C19 VCCO_35 "Power-supply pins for the output drivers in bank 35.", D2 VCC0_DDR_502 "1.2V-1.8V DDR I/O supply.", D7 VCCO_MIO0_500 "1.8V-3.3V PS I/O supply for MIO bank 500.", D12 VCCO_MIO1_501 "1.8V-3.3V PS I/O supply for MIO bank 501.", E5 VCC0_DDR_502 "1.2V-1.8V DDR I/O supply.", E15 VCCO_MIO1_501 "1.8V-3.3V PS I/O supply for MIO bank 501.", F8 VCCPAUX "1.8V auxiliary power supply for PS.", F11 VCCBATT_0 "Decryptor key memory backup supply.", F18 VCCO_35 "Power-supply pins for the output drivers in bank 35.", G1 VCC0_DDR_502 "1.2V-1.8V DDR I/O supply.", G7 VCCPINT "1.0V logic supply for PS.", G8 VCCPLL "1.8V PLL supply for PS.", G9 VCCPAUX "1.8V auxiliary power supply for PS.", G11 VCCBRAM "1.0V power-supply pins for the PL block RAM.", G13 VCCINT "1.0V power-supply pins for the internal core logic.", H4 VCC0_DDR_502 "1.2V-1.8V DDR I/O supply.", H8 VCCPAUX "1.8V auxiliary power supply for PS.", H10 VCCBRAM "1.0V power-supply pins for the PL block RAM.", H12 VCCINT "1.0V power-supply pins for the internal core logic.", H14 VCCO_35 "Power-supply pins for the output drivers in bank 35.", J7 VCCPINT "1.0V logic supply for PS.", J11 VCCAUX "1.8V power-supply pins for auxiliary I/O circuits.", J13 VCCINT "1.0V power-supply pins for the internal core logic.", J17 VCCO_35 "Power-supply pins for the output drivers in bank 35.", K6 VCCO_0 "Power-supply pins for the output drivers in bank 0.", K8 VCCPAUX "1.8V auxiliary power supply for PS.", K12 VCCINT "1.0V power-supply pins for the internal core logic.", K20 VCCO_35 "Power-supply pins for the output drivers in bank 35.", L3 VCC0_DDR_502 "1.2V-1.8V DDR I/O supply.", L7 VCCPINT "1.0V logic supply for PS.", L11 VCCAUX "1.8V power-supply pins for auxiliary I/O circuits.", L13 VCCINT "1.0V power-supply pins for the internal core logic.", M8 VCCPAUX "1.8V auxiliary power supply for PS.", M12 VCCINT "1.0V power-supply pins for the internal core logic.", M16 VCCO_35 "Power-supply pins for the output drivers in bank 35.", N7 VCCPINT "1.0V logic supply for PS.", N9 VCCAUX "1.8V power-supply pins for auxiliary I/O circuits.", N11 VCCAUX "1.8V power-supply pins for auxiliary I/O circuits.", N13 VCCINT "1.0V power-supply pins for the internal core logic.", N19 VCCO_34 "Power-supply pins for the output drivers in bank 34.", P2 VCC0_DDR_502 "1.2V-1.8V DDR I/O supply.", P8 VCCPINT "1.0V logic supply for PS.", P10 VCCAUX "1.8V power-supply pins for auxiliary I/O circuits.", P12 VCCINT "1.0V power-supply pins for the internal core logic.", R5 VCC0_DDR_502 "1.2V-1.8V DDR I/O supply.", R7 VCCPINT "1.0V logic supply for PS.", R9 VCCAUX "1.8V power-supply pins for auxiliary I/O circuits.", R13 VCCINT "1.0V power-supply pins for the internal core logic.", R15 VCCO_34 "Power-supply pins for the output drivers in bank 34.", T8 VCCO_13 "Power-supply pins for the output drivers in bank 13.", T18 VCCO_34 "Power-supply pins for the output drivers in bank 34.", U1 VCC0_DDR_502 "1.2V-1.8V DDR I/O supply.", U11 VCCO_13 "Power-supply pins for the output drivers in bank 13.", V4 VCC0_DDR_502 "1.2V-1.8V DDR I/O supply.", V14 VCCO_34 "Power-supply pins for the output drivers in bank 34.", W7 VCCO_13 "Power-supply pins for the output drivers in bank 13.", W17 VCCO_34 "Power-supply pins for the output drivers in bank 34.", Y10 VCCO_13 "Power-supply pins for the output drivers in bank 13.", Y20 VCCO_34 "Power-supply pins for the output drivers in bank 34."
part I pins: A8 GND "Ground connection.", A18 GND "Ground connection.", B1 GND "Ground connection.", B11 GND "Ground connection.", C4 GND "Ground connection.", C9 GND "Ground connection.", C14 GND "Ground connection.", D17 GND "Ground connection.", E10 GND "Ground connection.", E20 GND "Ground connection.", F3 GND "Ground connection.", F7 GND "Ground connection.", G10 GND "Ground connection.", G12 GND "Ground connection.", G16 GND "Ground connection.", H7 GND "Ground connection.", H9 GND "Ground connection.", H11 GND "Ground connection.", H13 GND "Ground connection.", H19 GND "Ground connection.", J2 GND "Ground connection.", J8 GND "Ground connection.", J12 GND "Ground connection.", K5 GND "Ground connection.", K7 GND "Ground connection.", K11 GND "Ground connection.", K13 GND "Ground connection.", K15 GND "Ground connection.", L8 GND "Ground connection.", L12 GND "Ground connection.", L18 GND "Ground connection.", M1 GND "Ground connection.", M7 GND "Ground connection.", M11 GND "Ground connection.", M13 GND "Ground connection.", N4 GND "Ground connection.", N8 GND "Ground connection.", N10 GND "Ground connection.", N12 GND "Ground connection.", N14 GND "Ground connection.", P7 GND "Ground connection.", P9 GND "Ground connection.", P11 GND "Ground connection.", P13 GND "Ground connection.", P17 GND "Ground connection.", R8 GND "Ground connection.", R12 GND "Ground connection.", R20 GND "Ground connection.", T3 GND "Ground connection.", T7 GND "Ground connection.", T13 GND "Ground connection.", U6 GND "Ground connection.", U16 GND "Ground connection.", V9 GND "Ground connection.", V19 GND "Ground connection.", W2 GND "Ground connection.", W12 GND "Ground connection.", Y5 GND "Ground connection.", Y15 GND "Ground connection."
part A text: CONFIG
part B text: BANK 13
part C text: BANK 34
part D text: BANK 35
part E text: DDR PORT 502
part F text: Bank 500
part G text: Bank 501
part H text: POWER